# Altium footprint library Altera Footprints.PcbLib: 132 footprints (part 6 of 12)
Each footprint in its own frame and in the unit in brackets; x right, y up, seen from the top. Pads: shape width x height; smd on the part's side, far side on the other; paste and mask are expansions set on the pad; w line width, h text height; cw(c..) or ccw(c..) is an arc to the next point about the centre after c.
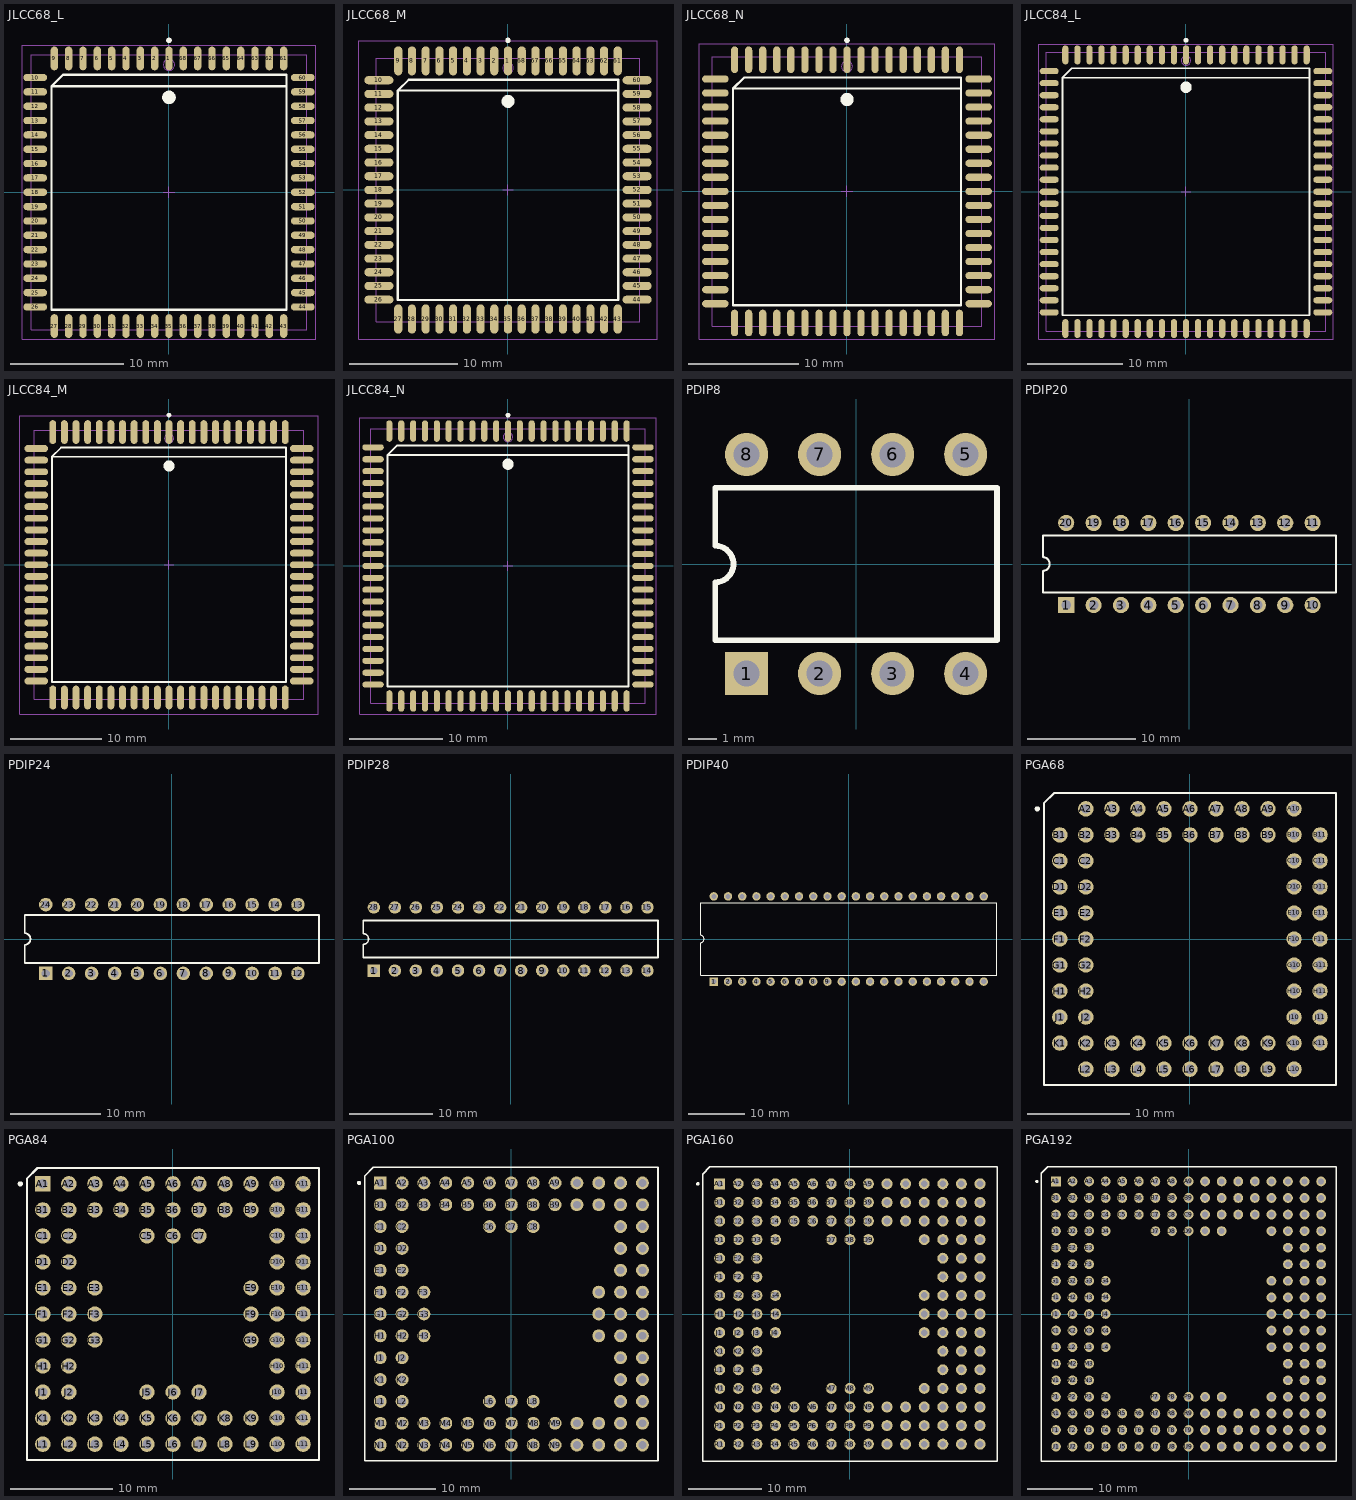
[diagram p5: the footprints below, top view; thin cyan lines are the x and y axes]

## JLCC68_L [mm] "68-Pin Ceramic J-Lead Chip Carrier (JLCC68), IPC High Density"
height 5.08
pads (68):
  oval 0.65x2.1 smd: 1(0,11.85) 2(-1.27,11.85) 3(-2.54,11.85) 4(-3.81,11.85) 5(-5.08,11.85) 6(-6.35,11.85) 7(-7.62,11.85) 8(-8.89,11.85) 9(-10.16,11.85) 27(-10.16,-11.85) 28(-8.89,-11.85) 29(-7.62,-11.85) 30(-6.35,-11.85) 31(-5.08,-11.85) 32(-3.81,-11.85) 33(-2.54,-11.85) 34(-1.27,-11.85) 35(0,-11.85) 36(1.27,-11.85) 37(2.54,-11.85) 38(3.81,-11.85) 39(5.08,-11.85) 40(6.35,-11.85) 41(7.62,-11.85) 42(8.89,-11.85) 43(10.16,-11.85) 61(10.16,11.85) 62(8.89,11.85) 63(7.62,11.85) 64(6.35,11.85) 65(5.08,11.85) 66(3.81,11.85) 67(2.54,11.85) 68(1.27,11.85)
  oval 2.1x0.65 smd: 10(-11.85,10.16) 11(-11.85,8.89) 12(-11.85,7.62) 13(-11.85,6.35) 14(-11.85,5.08) 15(-11.85,3.81) 16(-11.85,2.54) 17(-11.85,1.27) 18(-11.85,0) 19(-11.85,-1.27) 20(-11.85,-2.54) 21(-11.85,-3.81) 22(-11.85,-5.08) 23(-11.85,-6.35) 24(-11.85,-7.62) 25(-11.85,-8.89) 26(-11.85,-10.16) 44(11.85,-10.16) 45(11.85,-8.89) 46(11.85,-7.62) 47(11.85,-6.35) 48(11.85,-5.08) 49(11.85,-3.81) 50(11.85,-2.54) 51(11.85,-1.27) 52(11.85,0) 53(11.85,1.27) 54(11.85,2.54) 55(11.85,3.81) 56(11.85,5.08) 57(11.85,6.35) 58(11.85,7.62) 59(11.85,8.89) 60(11.85,10.16)
Top Overlay:
  circle w0.25: c0,13.45 r0.125
  circle w0.6: c0,8.4 r0.3
  lines w0.2: 10.4,9.4 -10.4,9.4 ; -10.4,9.4 -9.4,10.4 10.4,10.4 10.4,-10.4 -10.4,-10.4 -10.4,9.4
Mechanical 13:
  circle w0.1: c0,11.29 r0.5
  lines w0.1: -12.19,-12.19 -12.19,12.19 12.19,12.19 12.19,-12.19 -12.19,-12.19
Mechanical 15:
  lines w0.1: -0.5,0 0.5,0 ; 0,-0.5 0,0.5 ; -13,-13 -13,13 13,13 13,-13 -13,-13
3D body: height 5.08, standoff 0, extent -12.19,-12.19 12.19,12.19

## JLCC68_M [mm] "68-Pin Ceramic J-Lead Chip Carrier (JLCC68), IPC Low Density"
height 5.08
pads (68):
  oval 0.75x2.7 smd: 1(0,11.95) 2(-1.27,11.95) 3(-2.54,11.95) 4(-3.81,11.95) 5(-5.08,11.95) 6(-6.35,11.95) 7(-7.62,11.95) 8(-8.89,11.95) 9(-10.16,11.95) 27(-10.16,-11.95) 28(-8.89,-11.95) 29(-7.62,-11.95) 30(-6.35,-11.95) 31(-5.08,-11.95) 32(-3.81,-11.95) 33(-2.54,-11.95) 34(-1.27,-11.95) 35(0,-11.95) 36(1.27,-11.95) 37(2.54,-11.95) 38(3.81,-11.95) 39(5.08,-11.95) 40(6.35,-11.95) 41(7.62,-11.95) 42(8.89,-11.95) 43(10.16,-11.95) 61(10.16,11.95) 62(8.89,11.95) 63(7.62,11.95) 64(6.35,11.95) 65(5.08,11.95) 66(3.81,11.95) 67(2.54,11.95) 68(1.27,11.95)
  oval 2.7x0.75 smd: 10(-11.95,10.16) 11(-11.95,8.89) 12(-11.95,7.62) 13(-11.95,6.35) 14(-11.95,5.08) 15(-11.95,3.81) 16(-11.95,2.54) 17(-11.95,1.27) 18(-11.95,0) 19(-11.95,-1.27) 20(-11.95,-2.54) 21(-11.95,-3.81) 22(-11.95,-5.08) 23(-11.95,-6.35) 24(-11.95,-7.62) 25(-11.95,-8.89) 26(-11.95,-10.16) 44(11.95,-10.16) 45(11.95,-8.89) 46(11.95,-7.62) 47(11.95,-6.35) 48(11.95,-5.08) 49(11.95,-3.81) 50(11.95,-2.54) 51(11.95,-1.27) 52(11.95,0) 53(11.95,1.27) 54(11.95,2.54) 55(11.95,3.81) 56(11.95,5.08) 57(11.95,6.35) 58(11.95,7.62) 59(11.95,8.89) 60(11.95,10.16)
Top Overlay:
  circle w0.25: c0,13.85 r0.125
  circle w0.6: c0,8.2 r0.3
  lines w0.2: 10.2,9.2 -10.2,9.2 ; -10.2,9.2 -9.2,10.2 10.2,10.2 10.2,-10.2 -10.2,-10.2 -10.2,9.2
Mechanical 13:
  circle w0.1: c0,11.29 r0.5
  lines w0.1: -12.19,-12.19 -12.19,12.19 12.19,12.19 12.19,-12.19 -12.19,-12.19
Mechanical 15:
  lines w0.1: -0.5,0 0.5,0 ; 0,-0.5 0,0.5 ; -13.8,-13.8 -13.8,13.8 13.8,13.8 13.8,-13.8 -13.8,-13.8
3D body: height 5.08, standoff 0, extent -12.19,-12.19 12.19,12.19

## JLCC68_N [mm] "68-Pin Ceramic J-Lead Chip Carrier (JLCC68), IPC Medium Density"
height 5.08
pads (68):
  oval 0.65x2.4 smd: 1(0,11.9) 2(-1.27,11.9) 3(-2.54,11.9) 4(-3.81,11.9) 5(-5.08,11.9) 6(-6.35,11.9) 7(-7.62,11.9) 8(-8.89,11.9) 9(-10.16,11.9) 27(-10.16,-11.9) 28(-8.89,-11.9) 29(-7.62,-11.9) 30(-6.35,-11.9) 31(-5.08,-11.9) 32(-3.81,-11.9) 33(-2.54,-11.9) 34(-1.27,-11.9) 35(0,-11.9) 36(1.27,-11.9) 37(2.54,-11.9) 38(3.81,-11.9) 39(5.08,-11.9) 40(6.35,-11.9) 41(7.62,-11.9) 42(8.89,-11.9) 43(10.16,-11.9) 61(10.16,11.9) 62(8.89,11.9) 63(7.62,11.9) 64(6.35,11.9) 65(5.08,11.9) 66(3.81,11.9) 67(2.54,11.9) 68(1.27,11.9)
  oval 2.4x0.65 smd: 10(-11.9,10.16) 11(-11.9,8.89) 12(-11.9,7.62) 13(-11.9,6.35) 14(-11.9,5.08) 15(-11.9,3.81) 16(-11.9,2.54) 17(-11.9,1.27) 18(-11.9,0) 19(-11.9,-1.27) 20(-11.9,-2.54) 21(-11.9,-3.81) 22(-11.9,-5.08) 23(-11.9,-6.35) 24(-11.9,-7.62) 25(-11.9,-8.89) 26(-11.9,-10.16) 44(11.9,-10.16) 45(11.9,-8.89) 46(11.9,-7.62) 47(11.9,-6.35) 48(11.9,-5.08) 49(11.9,-3.81) 50(11.9,-2.54) 51(11.9,-1.27) 52(11.9,0) 53(11.9,1.27) 54(11.9,2.54) 55(11.9,3.81) 56(11.9,5.08) 57(11.9,6.35) 58(11.9,7.62) 59(11.9,8.89) 60(11.9,10.16)
Top Overlay:
  circle w0.25: c0,13.65 r0.125
  circle w0.6: c0,8.3 r0.3
  lines w0.2: 10.3,9.3 -10.3,9.3 ; -10.3,9.3 -9.3,10.3 10.3,10.3 10.3,-10.3 -10.3,-10.3 -10.3,9.3
Mechanical 13:
  circle w0.1: c0,11.29 r0.5
  lines w0.1: -12.19,-12.19 -12.19,12.19 12.19,12.19 12.19,-12.19 -12.19,-12.19
Mechanical 15:
  lines w0.1: -0.5,0 0.5,0 ; 0,-0.5 0,0.5 ; -13.35,-13.35 -13.35,13.35 13.35,13.35 13.35,-13.35 -13.35,-13.35
3D body: height 5.08, standoff 0, extent -12.19,-12.19 12.19,12.19

## JLCC84_L [mm] "84-Pin Ceramic J-Lead Chip Carrier (JLCC84), IPC High Density"
height 5.08
pads (84):
  oval 0.65x2 smd: 1(0,14.4) 2(-1.27,14.4) 3(-2.54,14.4) 4(-3.81,14.4) 5(-5.08,14.4) 6(-6.35,14.4) 7(-7.62,14.4) 8(-8.89,14.4) 9(-10.16,14.4) 10(-11.43,14.4) 11(-12.7,14.4) 33(-12.7,-14.4) 34(-11.43,-14.4) 35(-10.16,-14.4) 36(-8.89,-14.4) 37(-7.62,-14.4) 38(-6.35,-14.4) 39(-5.08,-14.4) 40(-3.81,-14.4) 41(-2.54,-14.4) 42(-1.27,-14.4) 43(0,-14.4) 44(1.27,-14.4) 45(2.54,-14.4) 46(3.81,-14.4) 47(5.08,-14.4) 48(6.35,-14.4) 49(7.62,-14.4) 50(8.89,-14.4) 51(10.16,-14.4) 52(11.43,-14.4) 53(12.7,-14.4) 75(12.7,14.4) 76(11.43,14.4) 77(10.16,14.4) 78(8.89,14.4) 79(7.62,14.4) 80(6.35,14.4) 81(5.08,14.4) 82(3.81,14.4) 83(2.54,14.4) 84(1.27,14.4)
  oval 2x0.65 smd: 12(-14.4,12.7) 13(-14.4,11.43) 14(-14.4,10.16) 15(-14.4,8.89) 16(-14.4,7.62) 17(-14.4,6.35) 18(-14.4,5.08) 19(-14.4,3.81) 20(-14.4,2.54) 21(-14.4,1.27) 22(-14.4,0) 23(-14.4,-1.27) 24(-14.4,-2.54) 25(-14.4,-3.81) 26(-14.4,-5.08) 27(-14.4,-6.35) 28(-14.4,-7.62) 29(-14.4,-8.89) 30(-14.4,-10.16) 31(-14.4,-11.43) 32(-14.4,-12.7) 54(14.4,-12.7) 55(14.4,-11.43) 56(14.4,-10.16) 57(14.4,-8.89) 58(14.4,-7.62) 59(14.4,-6.35) 60(14.4,-5.08) 61(14.4,-3.81) 62(14.4,-2.54) 63(14.4,-1.27) 64(14.4,0) 65(14.4,1.27) 66(14.4,2.54) 67(14.4,3.81) 68(14.4,5.08) 69(14.4,6.35) 70(14.4,7.62) 71(14.4,8.89) 72(14.4,10.16) 73(14.4,11.43) 74(14.4,12.7)
Top Overlay:
  circle w0.25: c0,15.95 r0.125
  circle w0.6: c0,11 r0.3
  lines w0.2: 13,12 -13,12 ; -13,12 -12,13 13,13 13,-13 -13,-13 -13,12
Mechanical 13:
  circle w0.1: c0,13.805 r0.5
  lines w0.1: -14.705,-14.705 -14.705,14.705 14.705,14.705 14.705,-14.705 -14.705,-14.705
Mechanical 15:
  lines w0.1: -0.5,0 0.5,0 ; 0,-0.5 0,0.5 ; -15.5,-15.5 -15.5,15.5 15.5,15.5 15.5,-15.5 -15.5,-15.5
3D body: height 5.08, standoff 0, extent -14.705,-14.705 14.705,14.705

## JLCC84_M [mm] "84-Pin Ceramic J-Lead Chip Carrier (JLCC84), IPC Low Density"
height 5.08
pads (84):
  oval 0.75x2.6 smd: 1(0,14.5) 2(-1.27,14.5) 3(-2.54,14.5) 4(-3.81,14.5) 5(-5.08,14.5) 6(-6.35,14.5) 7(-7.62,14.5) 8(-8.89,14.5) 9(-10.16,14.5) 10(-11.43,14.5) 11(-12.7,14.5) 33(-12.7,-14.5) 34(-11.43,-14.5) 35(-10.16,-14.5) 36(-8.89,-14.5) 37(-7.62,-14.5) 38(-6.35,-14.5) 39(-5.08,-14.5) 40(-3.81,-14.5) 41(-2.54,-14.5) 42(-1.27,-14.5) 43(0,-14.5) 44(1.27,-14.5) 45(2.54,-14.5) 46(3.81,-14.5) 47(5.08,-14.5) 48(6.35,-14.5) 49(7.62,-14.5) 50(8.89,-14.5) 51(10.16,-14.5) 52(11.43,-14.5) 53(12.7,-14.5) 75(12.7,14.5) 76(11.43,14.5) 77(10.16,14.5) 78(8.89,14.5) 79(7.62,14.5) 80(6.35,14.5) 81(5.08,14.5) 82(3.81,14.5) 83(2.54,14.5) 84(1.27,14.5)
  oval 2.6x0.75 smd: 12(-14.5,12.7) 13(-14.5,11.43) 14(-14.5,10.16) 15(-14.5,8.89) 16(-14.5,7.62) 17(-14.5,6.35) 18(-14.5,5.08) 19(-14.5,3.81) 20(-14.5,2.54) 21(-14.5,1.27) 22(-14.5,0) 23(-14.5,-1.27) 24(-14.5,-2.54) 25(-14.5,-3.81) 26(-14.5,-5.08) 27(-14.5,-6.35) 28(-14.5,-7.62) 29(-14.5,-8.89) 30(-14.5,-10.16) 31(-14.5,-11.43) 32(-14.5,-12.7) 54(14.5,-12.7) 55(14.5,-11.43) 56(14.5,-10.16) 57(14.5,-8.89) 58(14.5,-7.62) 59(14.5,-6.35) 60(14.5,-5.08) 61(14.5,-3.81) 62(14.5,-2.54) 63(14.5,-1.27) 64(14.5,0) 65(14.5,1.27) 66(14.5,2.54) 67(14.5,3.81) 68(14.5,5.08) 69(14.5,6.35) 70(14.5,7.62) 71(14.5,8.89) 72(14.5,10.16) 73(14.5,11.43) 74(14.5,12.7)
Top Overlay:
  circle w0.25: c0,16.35 r0.125
  circle w0.6: c0,10.8 r0.3
  lines w0.2: 12.8,11.8 -12.8,11.8 ; -12.8,11.8 -11.8,12.8 12.8,12.8 12.8,-12.8 -12.8,-12.8 -12.8,11.8
Mechanical 13:
  circle w0.1: c0,13.805 r0.5
  lines w0.1: -14.705,-14.705 -14.705,14.705 14.705,14.705 14.705,-14.705 -14.705,-14.705
Mechanical 15:
  lines w0.1: -0.5,0 0.5,0 ; 0,-0.5 0,0.5 ; -16.3,-16.3 -16.3,16.3 16.3,16.3 16.3,-16.3 -16.3,-16.3
3D body: height 5.08, standoff 0, extent -14.705,-14.705 14.705,14.705

## JLCC84_N [mm] "84-Pin Ceramic J-Lead Chip Carrier (JLCC84), IPC Medium Density"
height 5.08
pads (84):
  oval 0.65x2.3 smd: 1(0,14.45) 2(-1.27,14.45) 3(-2.54,14.45) 4(-3.81,14.45) 5(-5.08,14.45) 6(-6.35,14.45) 7(-7.62,14.45) 8(-8.89,14.45) 9(-10.16,14.45) 10(-11.43,14.45) 11(-12.7,14.45) 33(-12.7,-14.45) 34(-11.43,-14.45) 35(-10.16,-14.45) 36(-8.89,-14.45) 37(-7.62,-14.45) 38(-6.35,-14.45) 39(-5.08,-14.45) 40(-3.81,-14.45) 41(-2.54,-14.45) 42(-1.27,-14.45) 43(0,-14.45) 44(1.27,-14.45) 45(2.54,-14.45) 46(3.81,-14.45) 47(5.08,-14.45) 48(6.35,-14.45) 49(7.62,-14.45) 50(8.89,-14.45) 51(10.16,-14.45) 52(11.43,-14.45) 53(12.7,-14.45) 75(12.7,14.45) 76(11.43,14.45) 77(10.16,14.45) 78(8.89,14.45) 79(7.62,14.45) 80(6.35,14.45) 81(5.08,14.45) 82(3.81,14.45) 83(2.54,14.45) 84(1.27,14.45)
  oval 2.3x0.65 smd: 12(-14.45,12.7) 13(-14.45,11.43) 14(-14.45,10.16) 15(-14.45,8.89) 16(-14.45,7.62) 17(-14.45,6.35) 18(-14.45,5.08) 19(-14.45,3.81) 20(-14.45,2.54) 21(-14.45,1.27) 22(-14.45,0) 23(-14.45,-1.27) 24(-14.45,-2.54) 25(-14.45,-3.81) 26(-14.45,-5.08) 27(-14.45,-6.35) 28(-14.45,-7.62) 29(-14.45,-8.89) 30(-14.45,-10.16) 31(-14.45,-11.43) 32(-14.45,-12.7) 54(14.45,-12.7) 55(14.45,-11.43) 56(14.45,-10.16) 57(14.45,-8.89) 58(14.45,-7.62) 59(14.45,-6.35) 60(14.45,-5.08) 61(14.45,-3.81) 62(14.45,-2.54) 63(14.45,-1.27) 64(14.45,0) 65(14.45,1.27) 66(14.45,2.54) 67(14.45,3.81) 68(14.45,5.08) 69(14.45,6.35) 70(14.45,7.62) 71(14.45,8.89) 72(14.45,10.16) 73(14.45,11.43) 74(14.45,12.7)
Top Overlay:
  circle w0.6: c0,10.9 r0.3
  circle w0.25: c0,16.15 r0.125
  lines w0.2: 12.9,11.9 -12.9,11.9 ; -12.9,11.9 -12.9,-12.9 12.9,-12.9 12.9,12.9 -11.9,12.9 -12.9,11.9
Mechanical 13:
  circle w0.1: c0,13.805 r0.5
  lines w0.1: -14.705,-14.705 14.705,-14.705 14.705,14.705 -14.705,14.705 -14.705,-14.705
Mechanical 15:
  lines w0.1: -0.5,0 0.5,0 ; 0,-0.5 0,0.5 ; -15.85,-15.85 15.85,-15.85 15.85,15.85 -15.85,15.85 -15.85,-15.85
3D body: height 5.08, standoff 0, extent -14.705,-14.705 14.705,14.705

## PDIP8 [mm] "8-Pin Plastic Dual In-Line Package (PDIP)"
height 4.32
pads (8):
  rect 1.5x1.5 hole 0.9: 1(-3.81,-3.81)
  round 1.5 hole 0.9: 2(-1.27,-3.81) 3(1.27,-3.81) 4(3.81,-3.81) 5(3.81,3.81) 6(1.27,3.81) 7(-1.27,3.81) 8(-3.81,3.81)
Top Overlay:
  lines w0.2: -4.9,-2.65 -4.9,-0.635 ccw(c-4.9,0) -4.9,0.635 -4.9,2.65 4.9,2.65 4.9,-2.65 -4.9,-2.65

## PDIP20 [mm] "20-Pin Plastic Dual In-Line Package (PDIP)"
height 4.32
pads (20):
  rect 1.5x1.5 hole 0.9: 1(-11.43,-3.81)
  round 1.5 hole 0.9: 2(-8.89,-3.81) 3(-6.35,-3.81) 4(-3.81,-3.81) 5(-1.27,-3.81) 6(1.27,-3.81) 7(3.81,-3.81) 8(6.35,-3.81) 9(8.89,-3.81) 10(11.43,-3.81) 11(11.43,3.81) 12(8.89,3.81) 13(6.35,3.81) 14(3.81,3.81) 15(1.27,3.81) 16(-1.27,3.81) 17(-3.81,3.81) 18(-6.35,3.81) 19(-8.89,3.81) 20(-11.43,3.81)
Top Overlay:
  lines w0.2: -13.6,-2.65 13.6,-2.65 13.6,2.65 -13.6,2.65 -13.6,0.635 cw(c-13.6,0) -13.6,-0.635 -13.6,-2.65

## PDIP24 [mm] "24-Pin Plastic Dual In-Line Package (PDIP)"
height 4.32
pads (24):
  rect 1.5x1.5 hole 0.9: 1(-13.97,-3.81)
  round 1.5 hole 0.9: 2(-11.43,-3.81) 3(-8.89,-3.81) 4(-6.35,-3.81) 5(-3.81,-3.81) 6(-1.27,-3.81) 7(1.27,-3.81) 8(3.81,-3.81) 9(6.35,-3.81) 10(8.89,-3.81) 11(11.43,-3.81) 12(13.97,-3.81) 13(13.97,3.81) 14(11.43,3.81) 15(8.89,3.81) 16(6.35,3.81) 17(3.81,3.81) 18(1.27,3.81) 19(-1.27,3.81) 20(-3.81,3.81) 21(-6.35,3.81) 22(-8.89,3.81) 23(-11.43,3.81) 24(-13.97,3.81)
Top Overlay:
  lines w0.2: -16.3,-2.65 16.3,-2.65 16.3,2.65 -16.3,2.65 -16.3,0.635 cw(c-16.3,0) -16.3,-0.635 -16.3,-2.65

## PDIP28 [mm] "28-Pin Plastic Dual In-Line Package (PDIP)"
height 4.58
pads (28):
  rect 1.5x1.5 hole 0.9: 1(-16.51,-3.81)
  round 1.5 hole 0.9: 2(-13.97,-3.81) 3(-11.43,-3.81) 4(-8.89,-3.81) 5(-6.35,-3.81) 6(-3.81,-3.81) 7(-1.27,-3.81) 8(1.27,-3.81) 9(3.81,-3.81) 10(6.35,-3.81) 11(8.89,-3.81) 12(11.43,-3.81) 13(13.97,-3.81) 14(16.51,-3.81) 15(16.51,3.81) 16(13.97,3.81) 17(11.43,3.81) 18(8.89,3.81) 19(6.35,3.81) 20(3.81,3.81) 21(1.27,3.81) 22(-1.27,3.81) 23(-3.81,3.81) 24(-6.35,3.81) 25(-8.89,3.81) 26(-11.43,3.81) 27(-13.97,3.81) 28(-16.51,3.81)
Top Overlay:
  lines w0.2: -17.78,-2.225 -17.78,-0.635 ccw(c-17.78,0) -17.78,0.635 -17.78,2.225 17.78,2.225 17.78,-2.225 -17.78,-2.225

## PDIP40 [mm] "40-Pin Plastic Dual In-Line Package (PDIP)"
height 4.83
pads (40):
  rect 1.5x1.5 hole 0.9: 1(-24.13,-7.62)
  round 1.5 hole 0.9: 2(-21.59,-7.62) 3(-19.05,-7.62) 4(-16.51,-7.62) 5(-13.97,-7.62) 6(-11.43,-7.62) 7(-8.89,-7.62) 8(-6.35,-7.62) 9(-3.81,-7.62) 10(-1.27,-7.62) 11(1.27,-7.62) 12(3.81,-7.62) 13(6.35,-7.62) 14(8.89,-7.62) 15(11.43,-7.62) 16(13.97,-7.62) 17(16.51,-7.62) 18(19.05,-7.62) 19(21.59,-7.62) 20(24.13,-7.62) 21(24.13,7.62) 22(21.59,7.62) 23(19.05,7.62) 24(16.51,7.62) 25(13.97,7.62) 26(11.43,7.62) 27(8.89,7.62) 28(6.35,7.62) 29(3.81,7.62) 30(1.27,7.62) 31(-1.27,7.62) 32(-3.81,7.62) 33(-6.35,7.62) 34(-8.89,7.62) 35(-11.43,7.62) 36(-13.97,7.62) 37(-16.51,7.62) 38(-19.05,7.62) 39(-21.59,7.62) 40(-24.13,7.62)
Top Overlay:
  lines w0.2: -26.5,-6.45 26.5,-6.45 26.5,6.45 -26.5,6.45 -26.5,0.635 cw(c-26.5,0) -26.5,-0.635 -26.5,-6.45

## PGA68 [mm] "68-Pin Ceramic Pin Grid Array (PGA68)"
height 4.96
pads (68):
  round 1.5 hole 0.9: A2(-10.16,12.7) A3(-7.62,12.7) A4(-5.08,12.7) A5(-2.54,12.7) A6(0,12.7) A7(2.54,12.7) A8(5.08,12.7) A9(7.62,12.7) A10(10.16,12.7) B1(-12.7,10.16) B2(-10.16,10.16) B3(-7.62,10.16) B4(-5.08,10.16) B5(-2.54,10.16) B6(0,10.16) B7(2.54,10.16) B8(5.08,10.16) B9(7.62,10.16) B10(10.16,10.16) B11(12.7,10.16) C1(-12.7,7.62) C2(-10.16,7.62) C10(10.16,7.62) C11(12.7,7.62) D1(-12.7,5.08) D2(-10.16,5.08) D10(10.16,5.08) D11(12.7,5.08) E1(-12.7,2.54) E2(-10.16,2.54) E10(10.16,2.54) E11(12.7,2.54) F1(-12.7,0) F2(-10.16,0) F10(10.16,0) F11(12.7,0) G1(-12.7,-2.54) G2(-10.16,-2.54) G10(10.16,-2.54) G11(12.7,-2.54) H1(-12.7,-5.08) H2(-10.16,-5.08) H10(10.16,-5.08) H11(12.7,-5.08) J1(-12.7,-7.62) J2(-10.16,-7.62) J10(10.16,-7.62) J11(12.7,-7.62) K1(-12.7,-10.16) K2(-10.16,-10.16) K3(-7.62,-10.16) K4(-5.08,-10.16) K5(-2.54,-10.16) K6(0,-10.16) K7(2.54,-10.16) K8(5.08,-10.16) K9(7.62,-10.16) K10(10.16,-10.16) K11(12.7,-10.16) L2(-10.16,-12.7) L3(-7.62,-12.7) L4(-5.08,-12.7) L5(-2.54,-12.7) L6(0,-12.7) L7(2.54,-12.7) L8(5.08,-12.7) L9(7.62,-12.7) L10(10.16,-12.7)
Top Overlay:
  circle w0.25: c-14.9,12.7 r0.125
  lines w0.2: -14.25,-14.25 -14.25,13.25 -13.25,14.25 14.25,14.25 14.25,-14.25 -14.25,-14.25

## PGA84 [mm] "84-Pin Ceramic Pin Grid Array (PGA84)"
height 4.96
pads (84):
  rect 1.5x1.5 hole 0.9: A1(-12.7,12.7)
  round 1.5 hole 0.9: A2(-10.16,12.7) A3(-7.62,12.7) A4(-5.08,12.7) A5(-2.54,12.7) A6(0,12.7) A7(2.54,12.7) A8(5.08,12.7) A9(7.62,12.7) A10(10.16,12.7) A11(12.7,12.7) B1(-12.7,10.16) B2(-10.16,10.16) B3(-7.62,10.16) B4(-5.08,10.16) B5(-2.54,10.16) B6(0,10.16) B7(2.54,10.16) B8(5.08,10.16) B9(7.62,10.16) B10(10.16,10.16) B11(12.7,10.16) C1(-12.7,7.62) C2(-10.16,7.62) C5(-2.54,7.62) C6(0,7.62) C7(2.54,7.62) C10(10.16,7.62) C11(12.7,7.62) D1(-12.7,5.08) D2(-10.16,5.08) D10(10.16,5.08) D11(12.7,5.08) E1(-12.7,2.54) E2(-10.16,2.54) E3(-7.62,2.54) E9(7.62,2.54) E10(10.16,2.54) E11(12.7,2.54) F1(-12.7,0) F2(-10.16,0) F3(-7.62,0) F9(7.62,0) F10(10.16,0) F11(12.7,0) G1(-12.7,-2.54) G2(-10.16,-2.54) G3(-7.62,-2.54) G9(7.62,-2.54) G10(10.16,-2.54) G11(12.7,-2.54) H1(-12.7,-5.08) H2(-10.16,-5.08) H10(10.16,-5.08) H11(12.7,-5.08) J1(-12.7,-7.62) J2(-10.16,-7.62) J5(-2.54,-7.62) J6(0,-7.62) J7(2.54,-7.62) J10(10.16,-7.62) J11(12.7,-7.62) K1(-12.7,-10.16) K2(-10.16,-10.16) K3(-7.62,-10.16) K4(-5.08,-10.16) K5(-2.54,-10.16) K6(0,-10.16) K7(2.54,-10.16) K8(5.08,-10.16) K9(7.62,-10.16) K10(10.16,-10.16) K11(12.7,-10.16) L1(-12.7,-12.7) L2(-10.16,-12.7) L3(-7.62,-12.7) L4(-5.08,-12.7) L5(-2.54,-12.7) L6(0,-12.7) L7(2.54,-12.7) L8(5.08,-12.7) L9(7.62,-12.7) L10(10.16,-12.7) L11(12.7,-12.7)
Top Overlay:
  circle w0.25: c-14.9,12.7 r0.125
  lines w0.2: -14.25,-14.25 -14.25,13.216 -13.216,14.25 14.25,14.25 14.25,-14.25 -14.25,-14.25

## PGA100 [mm] "100-Pin Ceramic Pin Grid Array (PGA100)"
height 4.96
pads (100):
  rect 1.5x1.5 hole 0.9: A1(-15.24,15.24)
  round 1.5 hole 0.9: A2(-12.7,15.24) A3(-10.16,15.24) A4(-7.62,15.24) A5(-5.08,15.24) A6(-2.54,15.24) A7(0,15.24) A8(2.54,15.24) A9(5.08,15.24) A10(7.62,15.24) A11(10.16,15.24) A12(12.7,15.24) A13(15.24,15.24) B1(-15.24,12.7) B2(-12.7,12.7) B3(-10.16,12.7) B4(-7.62,12.7) B5(-5.08,12.7) B6(-2.54,12.7) B7(0,12.7) B8(2.54,12.7) B9(5.08,12.7) B10(7.62,12.7) B11(10.16,12.7) B12(12.7,12.7) B13(15.24,12.7) C1(-15.24,10.16) C2(-12.7,10.16) C6(-2.54,10.16) C7(0,10.16) C8(2.54,10.16) C12(12.7,10.16) C13(15.24,10.16) D1(-15.24,7.62) D2(-12.7,7.62) D12(12.7,7.62) D13(15.24,7.62) E1(-15.24,5.08) E2(-12.7,5.08) E12(12.7,5.08) E13(15.24,5.08) F1(-15.24,2.54) F2(-12.7,2.54) F3(-10.16,2.54) F11(10.16,2.54) F12(12.7,2.54) F13(15.24,2.54) G1(-15.24,0) G2(-12.7,0) G3(-10.16,0) G11(10.16,0) G12(12.7,0) G13(15.24,0) H1(-15.24,-2.54) H2(-12.7,-2.54) H3(-10.16,-2.54) H11(10.16,-2.54) H12(12.7,-2.54) H13(15.24,-2.54) J1(-15.24,-5.08) J2(-12.7,-5.08) J12(12.7,-5.08) J13(15.24,-5.08) K1(-15.24,-7.62) K2(-12.7,-7.62) K12(12.7,-7.62) K13(15.24,-7.62) L1(-15.24,-10.16) L2(-12.7,-10.16) L6(-2.54,-10.16) L7(0,-10.16) L8(2.54,-10.16) L12(12.7,-10.16) L13(15.24,-10.16) M1(-15.24,-12.7) M2(-12.7,-12.7) M3(-10.16,-12.7) M4(-7.62,-12.7) M5(-5.08,-12.7) M6(-2.54,-12.7) M7(0,-12.7) M8(2.54,-12.7) M9(5.08,-12.7) M10(7.62,-12.7) M11(10.16,-12.7) M12(12.7,-12.7) M13(15.24,-12.7) N1(-15.24,-15.24) N2(-12.7,-15.24) N3(-10.16,-15.24) N4(-7.62,-15.24) N5(-5.08,-15.24) N6(-2.54,-15.24) N7(0,-15.24) N8(2.54,-15.24) N9(5.08,-15.24) N10(7.62,-15.24) N11(10.16,-15.24) N12(12.7,-15.24) N13(15.24,-15.24)
Top Overlay:
  circle w0.25: c-17.7,15.24 r0.125
  lines w0.2: -17.05,-17.05 -17.05,16.05 -16.05,17.05 17.05,17.05 17.05,-17.05 -17.05,-17.05

## PGA160 [mm] "160-Pin Ceramic Pin Grid Array (PGA160)"
height 5.47
pads (160):
  rect 1.5x1.5 hole 0.9: A1(-17.78,17.78)
  round 1.5 hole 0.9: A2(-15.24,17.78) A3(-12.7,17.78) A4(-10.16,17.78) A5(-7.62,17.78) A6(-5.08,17.78) A7(-2.54,17.78) A8(0,17.78) A9(2.54,17.78) A10(5.08,17.78) A11(7.62,17.78) A12(10.16,17.78) A13(12.7,17.78) A14(15.24,17.78) A15(17.78,17.78) B1(-17.78,15.24) B2(-15.24,15.24) B3(-12.7,15.24) B4(-10.16,15.24) B5(-7.62,15.24) B6(-5.08,15.24) B7(-2.54,15.24) B8(0,15.24) B9(2.54,15.24) B10(5.08,15.24) B11(7.62,15.24) B12(10.16,15.24) B13(12.7,15.24) B14(15.24,15.24) B15(17.78,15.24) C1(-17.78,12.7) C2(-15.24,12.7) C3(-12.7,12.7) C4(-10.16,12.7) C5(-7.62,12.7) C6(-5.08,12.7) C7(-2.54,12.7) C8(0,12.7) C9(2.54,12.7) C10(5.08,12.7) C11(7.62,12.7) C12(10.16,12.7) C13(12.7,12.7) C14(15.24,12.7) C15(17.78,12.7) D1(-17.78,10.16) D2(-15.24,10.16) D3(-12.7,10.16) D4(-10.16,10.16) D7(-2.54,10.16) D8(0,10.16) D9(2.54,10.16) D12(10.16,10.16) D13(12.7,10.16) D14(15.24,10.16) D15(17.78,10.16) E1(-17.78,7.62) E2(-15.24,7.62) E3(-12.7,7.62) E13(12.7,7.62) E14(15.24,7.62) E15(17.78,7.62) F1(-17.78,5.08) F2(-15.24,5.08) F3(-12.7,5.08) F13(12.7,5.08) F14(15.24,5.08) F15(17.78,5.08) G1(-17.78,2.54) G2(-15.24,2.54) G3(-12.7,2.54) G4(-10.16,2.54) G12(10.16,2.54) G13(12.7,2.54) G14(15.24,2.54) G15(17.78,2.54) H1(-17.78,0) H2(-15.24,0) H3(-12.7,0) H4(-10.16,0) H12(10.16,0) H13(12.7,0) H14(15.24,0) H15(17.78,0) J1(-17.78,-2.54) J2(-15.24,-2.54) J3(-12.7,-2.54) J4(-10.16,-2.54) J12(10.16,-2.54) J13(12.7,-2.54) J14(15.24,-2.54) J15(17.78,-2.54) K1(-17.78,-5.08) K2(-15.24,-5.08) K3(-12.7,-5.08) K13(12.7,-5.08) K14(15.24,-5.08) K15(17.78,-5.08) L1(-17.78,-7.62) L2(-15.24,-7.62) L3(-12.7,-7.62) L13(12.7,-7.62) L14(15.24,-7.62) L15(17.78,-7.62) M1(-17.78,-10.16) M2(-15.24,-10.16) M3(-12.7,-10.16) M4(-10.16,-10.16) M7(-2.54,-10.16) M8(0,-10.16) M9(2.54,-10.16) M12(10.16,-10.16) M13(12.7,-10.16) M14(15.24,-10.16) M15(17.78,-10.16) N1(-17.78,-12.7) N2(-15.24,-12.7) N3(-12.7,-12.7) N4(-10.16,-12.7) N5(-7.62,-12.7) N6(-5.08,-12.7) N7(-2.54,-12.7) N8(0,-12.7) N9(2.54,-12.7) N10(5.08,-12.7) N11(7.62,-12.7) N12(10.16,-12.7) N13(12.7,-12.7) N14(15.24,-12.7) N15(17.78,-12.7) P1(-17.78,-15.24) P2(-15.24,-15.24) P3(-12.7,-15.24) P4(-10.16,-15.24) P5(-7.62,-15.24) P6(-5.08,-15.24) P7(-2.54,-15.24) P8(0,-15.24) P9(2.54,-15.24) P10(5.08,-15.24) P11(7.62,-15.24) P12(10.16,-15.24) P13(12.7,-15.24) P14(15.24,-15.24) P15(17.78,-15.24) R1(-17.78,-17.78) R2(-15.24,-17.78) R3(-12.7,-17.78) R4(-10.16,-17.78) R5(-7.62,-17.78) R6(-5.08,-17.78) R7(-2.54,-17.78) R8(0,-17.78) R9(2.54,-17.78) R10(5.08,-17.78) R11(7.62,-17.78) R12(10.16,-17.78) R13(12.7,-17.78) R14(15.24,-17.78) R15(17.78,-17.78)
Top Overlay:
  circle w0.25: c-20.75,17.78 r0.125
  lines w0.2: -20.1,-20.1 20.1,-20.1 20.1,20.1 -19.1,20.1 -20.1,19.1 -20.1,-20.1

## PGA192 [mm] "192-Pin Ceramic Pin Grid Array (PGA192)"
height 5.39
pads (192):
  rect 1.5x1.5 hole 0.9: A1(-20.32,20.32)
  round 1.5 hole 0.9: A2(-17.78,20.32) A3(-15.24,20.32) A4(-12.7,20.32) A5(-10.16,20.32) A6(-7.62,20.32) A7(-5.08,20.32) A8(-2.54,20.32) A9(0,20.32) A10(2.54,20.32) A11(5.08,20.32) A12(7.62,20.32) A13(10.16,20.32) A14(12.7,20.32) A15(15.24,20.32) A16(17.78,20.32) A17(20.32,20.32) B1(-20.32,17.78) B2(-17.78,17.78) B3(-15.24,17.78) B4(-12.7,17.78) B5(-10.16,17.78) B6(-7.62,17.78) B7(-5.08,17.78) B8(-2.54,17.78) B9(0,17.78) B10(2.54,17.78) B11(5.08,17.78) B12(7.62,17.78) B13(10.16,17.78) B14(12.7,17.78) B15(15.24,17.78) B16(17.78,17.78) B17(20.32,17.78) C1(-20.32,15.24) C2(-17.78,15.24) C3(-15.24,15.24) C4(-12.7,15.24) C5(-10.16,15.24) C6(-7.62,15.24) C7(-5.08,15.24) C8(-2.54,15.24) C9(0,15.24) C10(2.54,15.24) C11(5.08,15.24) C12(7.62,15.24) C13(10.16,15.24) C14(12.7,15.24) C15(15.24,15.24) C16(17.78,15.24) C17(20.32,15.24) D1(-20.32,12.7) D2(-17.78,12.7) D3(-15.24,12.7) D4(-12.7,12.7) D7(-5.08,12.7) D8(-2.54,12.7) D9(0,12.7) D10(2.54,12.7) D11(5.08,12.7) D14(12.7,12.7) D15(15.24,12.7) D16(17.78,12.7) D17(20.32,12.7) E1(-20.32,10.16) E2(-17.78,10.16) E3(-15.24,10.16) E15(15.24,10.16) E16(17.78,10.16) E17(20.32,10.16) F1(-20.32,7.62) F2(-17.78,7.62) F3(-15.24,7.62) F15(15.24,7.62) F16(17.78,7.62) F17(20.32,7.62) G1(-20.32,5.08) G2(-17.78,5.08) G3(-15.24,5.08) G4(-12.7,5.08) G14(12.7,5.08) G15(15.24,5.08) G16(17.78,5.08) G17(20.32,5.08) H1(-20.32,2.54) H2(-17.78,2.54) H3(-15.24,2.54) H4(-12.7,2.54) H14(12.7,2.54) H15(15.24,2.54) H16(17.78,2.54) H17(20.32,2.54) J1(-20.32,0) J2(-17.78,0) J3(-15.24,0) J4(-12.7,0) J14(12.7,0) J15(15.24,0) J16(17.78,0) J17(20.32,0) K1(-20.32,-2.54) K2(-17.78,-2.54) K3(-15.24,-2.54) K4(-12.7,-2.54) K14(12.7,-2.54) K15(15.24,-2.54) K16(17.78,-2.54) K17(20.32,-2.54) L1(-20.32,-5.08) L2(-17.78,-5.08) L3(-15.24,-5.08) L4(-12.7,-5.08) L14(12.7,-5.08) L15(15.24,-5.08) L16(17.78,-5.08) L17(20.32,-5.08) M1(-20.32,-7.62) M2(-17.78,-7.62) M3(-15.24,-7.62) M15(15.24,-7.62) M16(17.78,-7.62) M17(20.32,-7.62) N1(-20.32,-10.16) N2(-17.78,-10.16) N3(-15.24,-10.16) N15(15.24,-10.16) N16(17.78,-10.16) N17(20.32,-10.16) P1(-20.32,-12.7) P2(-17.78,-12.7) P3(-15.24,-12.7) P4(-12.7,-12.7) P7(-5.08,-12.7) P8(-2.54,-12.7) P9(0,-12.7) P10(2.54,-12.7) P11(5.08,-12.7) P14(12.7,-12.7) P15(15.24,-12.7) P16(17.78,-12.7) P17(20.32,-12.7) R1(-20.32,-15.24) R2(-17.78,-15.24) R3(-15.24,-15.24) R4(-12.7,-15.24) R5(-10.16,-15.24) R6(-7.62,-15.24) R7(-5.08,-15.24) R8(-2.54,-15.24) R9(0,-15.24) R10(2.54,-15.24) R11(5.08,-15.24) R12(7.62,-15.24) R13(10.16,-15.24) R14(12.7,-15.24) R15(15.24,-15.24) R16(17.78,-15.24) R17(20.32,-15.24) T1(-20.32,-17.78) T2(-17.78,-17.78) T3(-15.24,-17.78) T4(-12.7,-17.78) T5(-10.16,-17.78) T6(-7.62,-17.78) T7(-5.08,-17.78) T8(-2.54,-17.78) T9(0,-17.78) T10(2.54,-17.78) T11(5.08,-17.78) T12(7.62,-17.78) T13(10.16,-17.78) T14(12.7,-17.78) T15(15.24,-17.78) T16(17.78,-17.78) T17(20.32,-17.78) U1(-20.32,-20.32) U2(-17.78,-20.32) U3(-15.24,-20.32) U4(-12.7,-20.32) U5(-10.16,-20.32) U6(-7.62,-20.32) U7(-5.08,-20.32) U8(-2.54,-20.32) U9(0,-20.32) U10(2.54,-20.32) U11(5.08,-20.32) U12(7.62,-20.32) U13(10.16,-20.32) U14(12.7,-20.32) U15(15.24,-20.32) U16(17.78,-20.32) U17(20.32,-20.32)
Top Overlay:
  circle w0.25: c-23.25,20.32 r0.125
  lines w0.2: -22.6,-22.6 -22.6,21.6 -21.6,22.6 22.6,22.6 22.6,-22.6 -22.6,-22.6